# EAGLE library part SN74LVC2G38?* (library MasterPhonebot)
SN74LVC2G38 Description The SN74LVC2G38 is designed for 1.65-V to 5.5-V VCC operation. This device is a dual two-input NAND buffer gate with open-drain outputs. It performs the Boolean function Y = A • B or Y = A + B in positive logic. NanoFree™ package technology is a major breakthrough in IC packaging concepts, using the die as the package. This device is fully specified for partial-power-down applications using Ioff. The Ioff circuitry disables the outputs, preventing damaging current backflow through the device when it is powered down. Features Available in the Texas Instruments NanoFree Package Supports 5-V VCC Operation Inputs Accept Voltages to 5.5 V Max tpd of 4 ns at 3.3 V Low Power Consumption, 10-μA Max ICC ±24-mA Output Drive at 3.3 V Typical VOLP (Output Ground Bounce) <0.8 V at VCC = 3.3 V, TA = 25°C Typical VOHV (Output VOH Undershoot) >2 V at VCC = 3.3 V, TA = 25°C Ioff Supports Live insertion, Partial-Power-Down Mode Operation and Back Drive Protection Latch-Up Performance Exceeds 100 mA Per JESD 78, Class II ESD Protection Exceeds JESD 22 2000-V Human-Body Model (A114-A) 200-V Machine Model (A115-A) 1000-V Charged-Device Model (C101) Details see: Datasheet <http://www.ti.com/lit/ds/symlink/sn74lvc2g38.pdf> General Details: www.ti.com <http://www.ti.com/product/sn74lvc2g38> Created: L.Lischke 2015-03-23 (c) KK-Prime Engineering GmbH
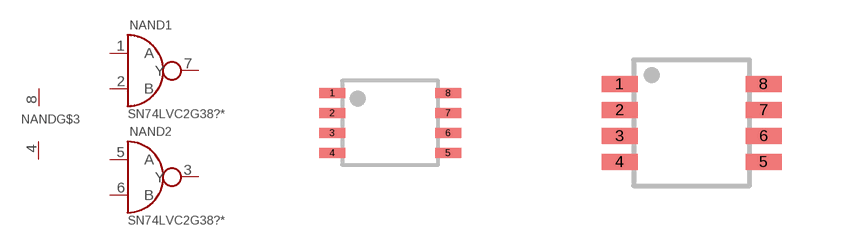
[diagram p19: symbol with the pads of SOP50P310X90-8L; footprints SOP50P310X90-8L, SOP65P400X130-8L]

Designator prefix NAND; gates 1=NAND 2=NAND G$3=PWR-PINS

## SN74LVC2G38DCUR  [SOP50P310X90-8L]
1  1:A  in
2  1:B  in
3  2:Y  out
4  G$3:GND  pwr
5  2:A  in
6  2:B  in
7  1:Y  out
8  G$3:VDD  pwr

## SN74LVC2G38DCTR  [SOP65P400X130-8L]
Pads as for SOP50P310X90-8L

## Footprint SOP50P310X90-8L (pad centres in mm)
VSSOP-8 Package: R-PDSO-G8 IPC: SOP50P310X90-8L Created: L.Lischke 2015-03-21 (c) KK-Prime Engineering GmbH
smd 0.65 x 0.25: 1 -1.45,0.75; 2 -1.45,0.25; 3 -1.45,-0.25; 4 -1.45,-0.75; 5 1.45,-0.75; 6 1.45,-0.25; 7 1.45,0.25; 8 1.45,0.75

## Footprint SOP65P400X130-8L (pad centres in mm)
SSOP-8 Package: R-PDSO-G8 IPC: SOP65P400X130-8L Created: L.Lischke 2015-03-21 (c) KK-Prime Engineering GmbH
smd 0.9 x 0.4: 1 -1.8,0.975; 2 -1.8,0.325; 3 -1.8,-0.325; 4 -1.8,-0.975; 5 1.8,-0.975; 6 1.8,-0.325; 7 1.8,0.325; 8 1.8,0.975